# Altium footprint library CAPC0610X040.PcbLib: 3 footprints
Each footprint in its own frame and in the unit in brackets; x right, y up, seen from the top. Pads: shape width x height; smd on the part's side, far side on the other; paste and mask are expansions set on the pad; w line width, h text height; cw(c..) or ccw(c..) is an arc to the next point about the centre after c.
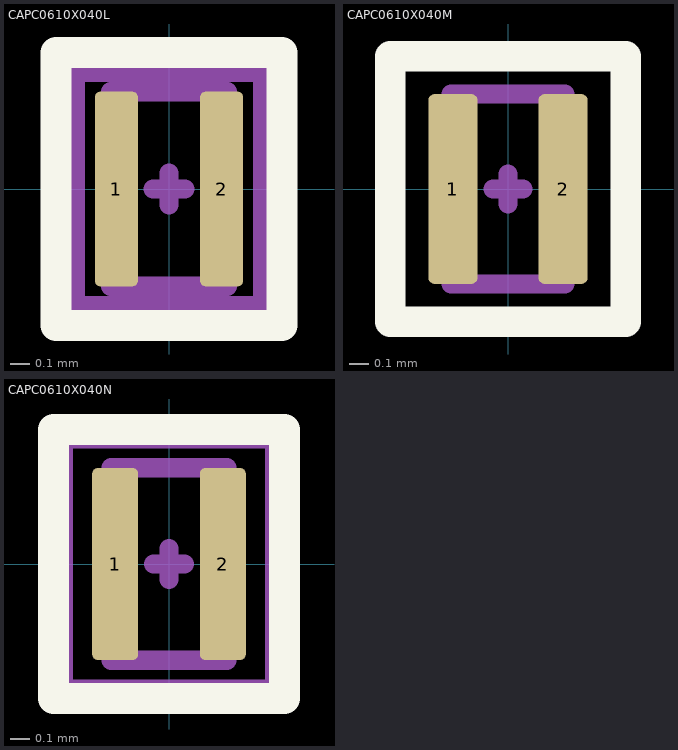
[diagram p0: the footprints below, top view; thin cyan lines are the x and y axes]

## CAPC0610X040L [mm] "Capacitors, Chip, Non-polarized"
height 0.45
pads (2):
  rrect25% 0.22x1 smd: 1(-0.27,0) 2(0.27,0)
Top Overlay:
  lines w0.16: -0.58,-0.7 0.58,-0.7 0.58,0.7 -0.58,0.7 -0.58,-0.7
Top Component Center:
  lines w0.1: -0.08,0 0.08,0 ; 0,-0.08 0,0.08
Top Courtyard:
  lines w0.1: -0.48,-0.6 0.48,-0.6 0.48,0.6 -0.48,0.6 -0.48,-0.6
Top Assembly:
  lines w0.1: -0.3,-0.5 0.3,-0.5 0.3,0.5 -0.3,0.5 -0.3,-0.5
  text ".Designator" at 0,0 h1
3D body "CAPC0610X040L.STEP": height 0.4, standoff 0, extent -0.3,-0.5 0.3,0.5

## CAPC0610X040M [mm] "Capacitors, Chip, Non-polarized"
height 0.45
pads (2):
  rrect25% 0.26x1 smd: 1(-0.29,0) 2(0.29,0)
Top Overlay:
  lines w0.16: -0.62,-0.7 0.62,-0.7 0.62,0.7 -0.62,0.7 -0.62,-0.7
Top Component Center:
  lines w0.1: -0.08,0 0.08,0 ; 0,-0.08 0,0.08
Top Courtyard:
  lines w0.1: -0.62,-0.7 0.62,-0.7 0.62,0.7 -0.62,0.7 -0.62,-0.7
Top Assembly:
  lines w0.1: -0.3,-0.5 0.3,-0.5 0.3,0.5 -0.3,0.5 -0.3,-0.5
  text ".Designator" at 0,0 h1
3D body "CAPC0610X040M.STEP": height 0.4, standoff 0, extent -0.3,-0.5 0.3,0.5

## CAPC0610X040N [mm] "Capacitors, Chip, Non-polarized"
height 0.45
pads (2):
  rrect25% 0.24x1 smd: 1(-0.28,0) 2(0.28,0)
Top Overlay:
  lines w0.16: -0.6,-0.7 0.6,-0.7 0.6,0.7 -0.6,0.7 -0.6,-0.7
Top Component Center:
  lines w0.1: -0.08,0 0.08,0 ; 0,-0.08 0,0.08
Top Courtyard:
  lines w0.1: -0.55,-0.65 0.55,-0.65 0.55,0.65 -0.55,0.65 -0.55,-0.65
Top Assembly:
  lines w0.1: -0.3,-0.5 0.3,-0.5 0.3,0.5 -0.3,0.5 -0.3,-0.5
  text ".Designator" at 0,0 h1
3D body "CAPC0610X040N.STEP": height 0.4, standoff 0, extent -0.3,-0.5 0.3,0.5